# EAGLE library part TXS2-3V (library TXS2-3V)
Electromechanical Relay 3VDC 180Ohm 1A DPDT (( 15mm 7.4mm 8.2mm)) THT Ultra High Sensitivity Relay Automotive Source: Datasheet <https://componentsearchengine.com/Datasheets/2/TXS2-3V.pdf>
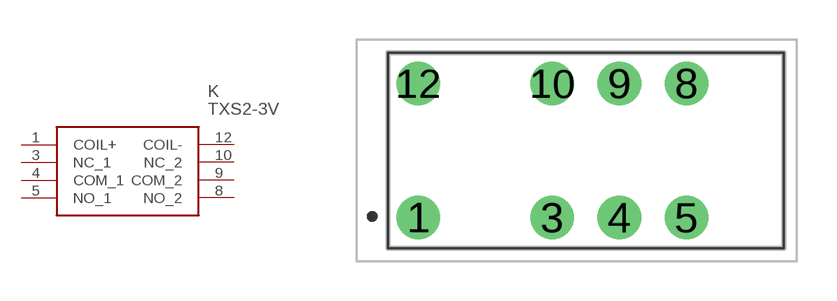
[diagram p0: symbol with the pads of TXS23V; footprint TXS23V]

Designator prefix K

## TXS2-3V (Arrow_Part_Number: TXS2-3V; Arrow_Price-Stock: https://www.arrow.com/en/products/txs2-3v/panasonic?region=nac; Description: Electromechanical Relay 3VDC 180Ohm 1A DPDT (( 15mm 7.4mm 8.2mm)) THT Ultra High Sensitivity Relay Automotive; Height: 8.2mm; Manufacturer_Name: Panasonic; Manufacturer_Part_Number: TXS2-3V; Mouser_Part_Number: 769-TXS2-3V; Mouser_Price-Stock: https://www.mouser.co.uk/ProductDetail/Panasonic-Industrial-Devices/TXS2-3V?qs=sEN%2FkO1EG6ZEMuSXIxhRxQ%3D%3D)  [TXS23V]
1  COIL+
3  NC_1
4  COM_1
5  NO_1
8  NO_2
9  COM_2
10  NC_2
12  COIL-

## Footprint TXS23V (pad centres in mm)
TXS2-3V-1
drill 1.1 pad 1.65: 1 0,0; 3 5.08,0; 4 7.62,0; 5 10.16,0; 8 10.16,5.08; 9 7.62,5.08; 10 5.08,5.08; 12 0,5.08